# Altium footprint library adafruit.PCBLIB: 643 footprints (part 39 of 41)
Each footprint in its own frame and in the unit in brackets; x right, y up, seen from the top. Pads: shape width x height; smd on the part's side, far side on the other; paste and mask are expansions set on the pad; w line width, h text height; cw(c..) or ccw(c..) is an arc to the next point about the centre after c.
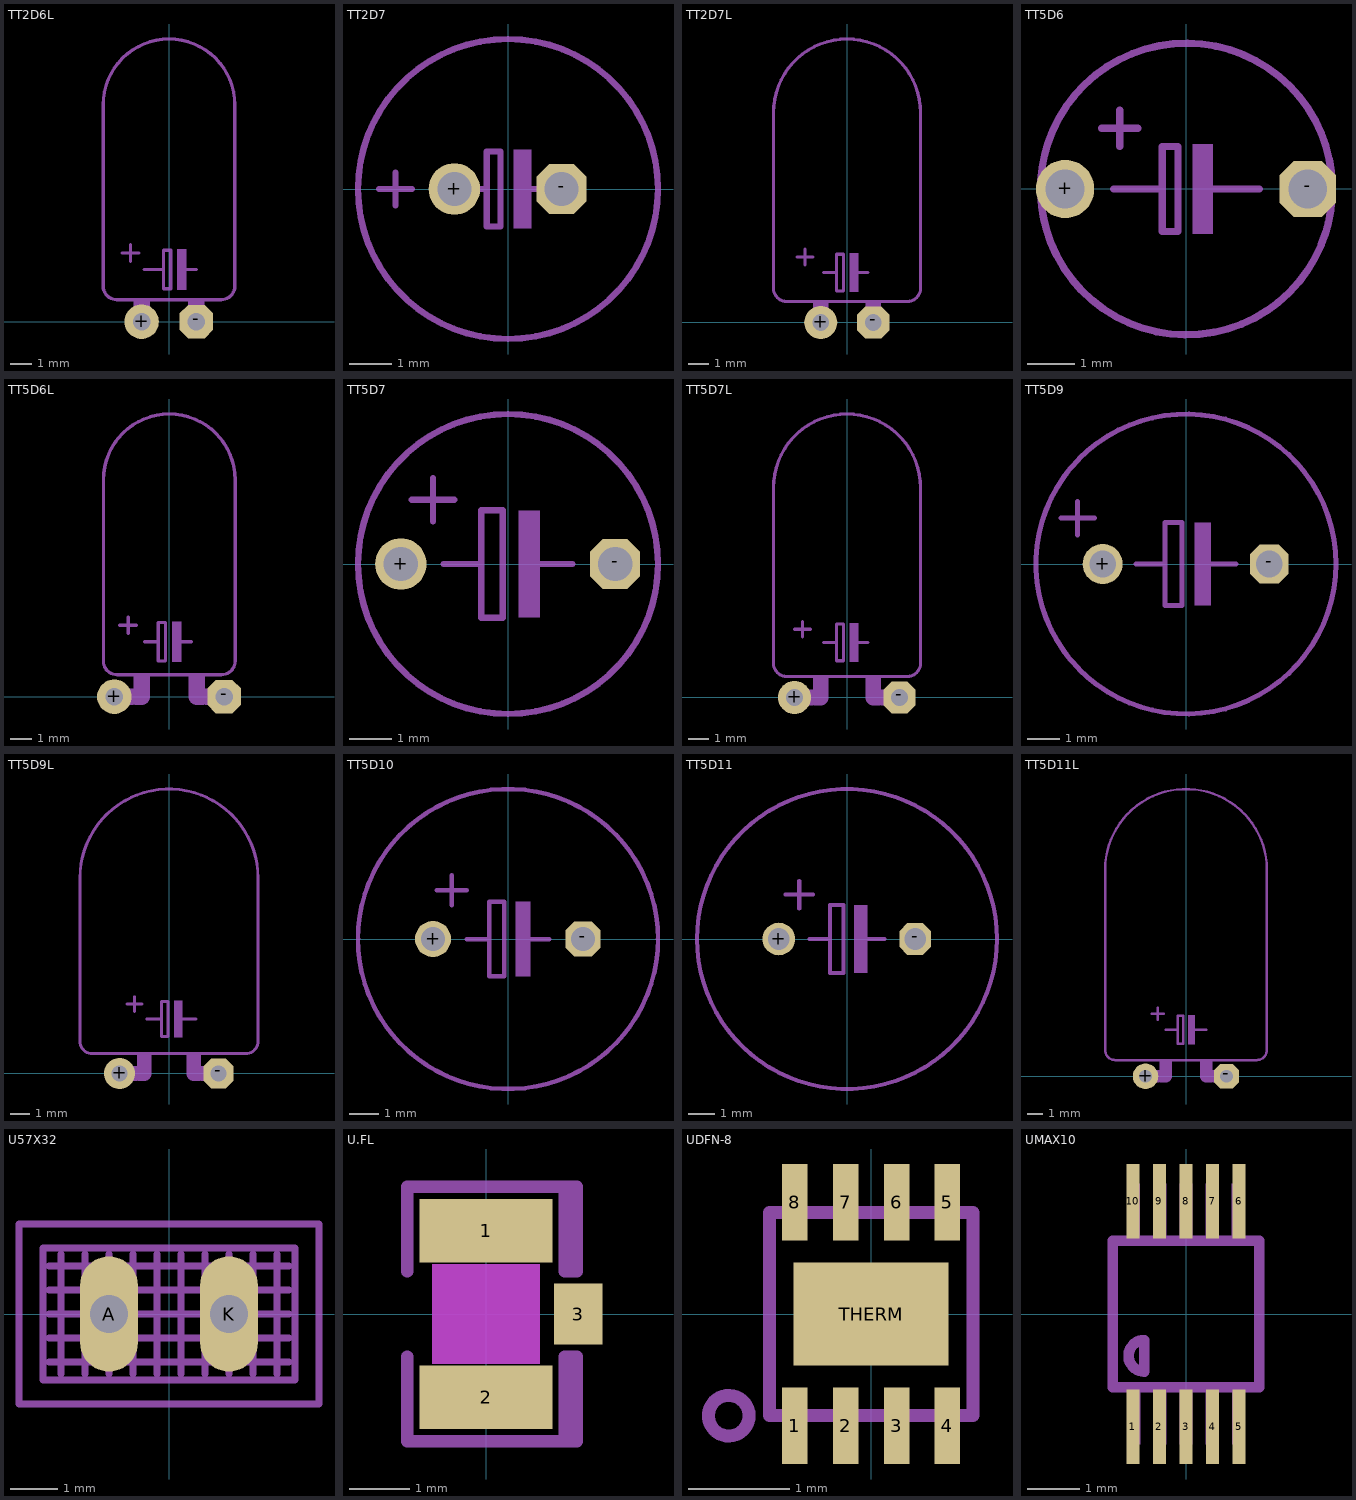
[diagram p38: the footprints below, top view; thin cyan lines are the x and y axes]

## TT2D6L [mil]
pads (2):
  round 63 hole 32: +(-50,0)
  oct 61x61 hole 32: -(50,0)
Mechanical 2:
  rectangle: 15,58 32,132
  lines w6: -85,125 -55,125 ; -70,110 -70,140 ; -45,95 -10,95 ; 30,95 50,95 ; -10,95 -10,60 3,60 3,130 -10,130 -10,95 ; -120,65 -120,395 cw(c0,395) 120,395 120,65 cw(c95,65) 95,40 -95,40 cw(c-95,65) -120,65
Mechanical 18:
  rectangle: -65,25 -35,40
  rectangle: 35,25 65,40
  rectangle: 35,-5 65,25
  rectangle: -65,-5 -35,25

## TT2D7 [mil]
pads (2):
  round 48 hole 32: +(-50,0)
  oct 46.48x46.48 hole 32: -(50,0)
Mechanical 2:
  circle w6: c0,0 r140
  lines w6: -120,0 -90,0 ; -105,-15 -105,15
Mechanical 18:
  rectangle: 5,-37 22,37
  lines w6: -40,0 -20,0 ; 20,0 40,0 ; -20,0 -20,-35 -7,-35 -7,35 -20,35 -20,0

## TT2D7L [mil]
pads (2):
  round 63 hole 32: +(-50,0)
  oct 61x61 hole 32: -(50,0)
Mechanical 2:
  rectangle: 5,58 22,132
  lines w6: -95,125 -65,125 ; -80,110 -80,140 ; -45,95 -20,95 ; 20,95 40,95 ; -20,95 -20,60 -7,60 -7,130 -20,130 -20,95 ; -140,65 ccw(c-115,65) -115,40 115,40 ccw(c115,65) 140,65 140,400 ccw(c0,400) -140,400 -140,65
Mechanical 18:
  rectangle: -65,25 -35,40
  rectangle: 35,25 65,40
  rectangle: 35,-5 65,25
  rectangle: -65,-5 -35,25

## TT5D6 [mil]
pads (2):
  round 48 hole 32: +(-100,0)
  oct 46.48x46.48 hole 32: -(100,0)
Mechanical 2:
  rectangle: 5,-37 22,37
  lines w6: -115.76,-32.41 ccw(c0,0) 115,-35 ; -114.49,36.64 cw(c0,0) 115,35 ; -70,50 -40,50 ; -60,0 -20,0 ; -55,35 -55,65 ; 20,0 60,0 ; -20,0 -20,-35 -7,-35 -7,35 -20,35 -20,0
Mechanical 18:
  lines w6: -115,-35 cw(c0,0) -114.04,38.01 ; 114.04,-38.01 ccw(c0,0) 115,35

## TT5D6L [mil]
pads (2):
  round 63 hole 32: +(-100,0)
  oct 61x61 hole 32: -(100,0)
Mechanical 2:
  rectangle: -65,25 -35,40
  rectangle: 35,25 65,40
  rectangle: 5,63 22,137
  lines w6: -90,130 -60,130 ; -75,115 -75,145 ; -45,100 -20,100 ; 20,100 40,100 ; -20,100 -20,65 -7,65 -7,135 -20,135 -20,100 ; -120,65 -120,395 cw(c0,395) 120,395 120,65 cw(c95,65) 95,40 -95,40 cw(c-95,65) -120,65
  lines w30: -50,0 -50,25 ; 50,0 50,25
Mechanical 18:
  rectangle: 65,-15 100,15
  rectangle: -100,-15 -65,15
  lines w30: -60,0 -50,0 ; 50,0 60,0

## TT5D7 [mil]
pads (2):
  round 48 hole 32: +(-100,0)
  oct 46.48x46.48 hole 32: -(100,0)
Mechanical 2:
  circle w6: c0,0 r140
  rectangle: 10,-50 30,50
  lines w6: -90,60 -50,60 ; -70,40 -70,80 ; -60,0 -25,0 ; 25,0 60,0 ; -25,0 -25,-50 -5,-50 -5,50 -25,50 -25,0

## TT5D7L [mil]
pads (2):
  round 63 hole 32: +(-100,0)
  oct 61x61 hole 32: -(100,0)
Mechanical 2:
  rectangle: -65,25 -35,40
  rectangle: 35,25 65,40
  rectangle: 5,68 22,142
  lines w6: -100,130 -70,130 ; -85,115 -85,145 ; -45,105 -20,105 ; 20,105 40,105 ; -20,105 -20,70 -7,70 -7,140 -20,140 -20,105 ; -140,65 -140,400 cw(c0,400) 140,400 140,65 cw(c115,65) 115,40 -115,40 cw(c-115,65) -140,65
  lines w30: -50,0 -50,25 ; 50,0 50,25
Mechanical 18:
  rectangle: 65,-15 100,15
  rectangle: -100,-15 -65,15
  lines w30: -60,0 -50,0 ; 50,0 60,0

## TT5D9 [mil]
pads (2):
  round 48 hole 32: +(-100,0)
  oct 46.48x46.48 hole 32: -(100,0)
Mechanical 2:
  circle w6: c0,0 r180
  rectangle: 10,-50 30,50
  lines w6: -150,55 -110,55 ; -130,35 -130,75 ; -60,0 -25,0 ; 25,0 60,0 ; -25,0 -25,-50 -5,-50 -5,50 -25,50 -25,0

## TT5D9L [mil]
pads (2):
  round 63 hole 32: +(-100,0)
  oct 61x61 hole 32: -(100,0)
Mechanical 2:
  rectangle: -65,25 -35,40
  rectangle: 35,25 65,40
  rectangle: 10,73 27,147
  lines w6: -85,140 -55,140 ; -70,125 -70,155 ; -45,110 -15,110 ; 25,110 55,110 ; -15,110 -15,75 -2,75 -2,145 -15,145 -15,110 ; -180,65 -180,395 cw(c0,395) 180,395 180,65 cw(c155,65) 155,40 -155,40 cw(c-155,65) -180,65
  lines w30: -50,0 -50,25 ; 50,0 50,25
Mechanical 18:
  rectangle: 65,-15 100,15
  rectangle: -100,-15 -65,15
  lines w30: -60,0 -50,0 ; 50,0 60,0

## TT5D10 [mil]
pads (2):
  round 48 hole 32: +(-100,0)
  oct 46.48x46.48 hole 32: -(100,0)
Mechanical 2:
  circle w6: c0,0 r200
  rectangle: 10,-50 30,50
  lines w6: -95,65 -55,65 ; -75,45 -75,85 ; -55,0 -25,0 ; 25,0 55,0 ; -25,0 -25,-50 -5,-50 -5,50 -25,50 -25,0

## TT5D11 [mil]
pads (2):
  round 48 hole 32: +(-100,0)
  oct 46.48x46.48 hole 32: -(100,0)
Mechanical 2:
  circle w6: c0,0 r220
  rectangle: 10,-50 30,50
  lines w6: -90,65 -50,65 ; -70,45 -70,85 ; -55,0 -25,0 ; 25,0 55,0 ; -25,0 -25,-50 -5,-50 -5,50 -25,50 -25,0

## TT5D11L [mil]
pads (2):
  round 63 hole 32: +(-100,0)
  oct 61x61 hole 32: -(100,0)
Mechanical 2:
  rectangle: -65,25 -35,40
  rectangle: 35,25 65,40
  rectangle: 5,78 22,152
  lines w6: -85,155 -55,155 ; -70,140 -70,170 ; -50,115 -20,115 ; 20,115 50,115 ; -20,115 -20,80 -7,80 -7,150 -20,150 -20,115 ; -200,65 -200,510 cw(c0,510) 200,510 200,65 cw(c175,65) 175,40 -175,40 cw(c-175,65) -200,65
  lines w30: -50,0 -50,25 ; 50,0 50,25
Mechanical 18:
  rectangle: 65,-15 100,15
  rectangle: -100,-15 -65,15
  lines w30: -60,0 -50,0 ; 50,0 60,0

## U57X32 [mil]
pads (2):
  oval 48x96 hole 32: A(-50,0) K(50,0)
Mechanical 2:
  lines w6: -125,-75 125,-75 125,75 -125,75 -125,-75 ; -105,-55 105,-55 105,55 -105,55 -105,-55
Mechanical 18:
  lines w6: -100,-40 100,-40 ; -100,-20 100,-20 ; -100,0 100,0 ; -100,20 100,20 ; -100,40 100,40 ; -90,-50 -90,50 ; -70,-50 -70,50 ; -50,-50 -50,50 ; -30,-50 -30,50 ; -10,-50 -10,50 ; 10,-50 10,50 ; 30,-50 30,50 ; 50,-50 50,50 ; 70,-50 70,50 ; 90,-50 90,50

## U.FL [mm]
pads (3):
  rect 2.2x1.05 smd: 1(0,1.375) 2(0,-1.375)
  rect 0.8x1 smd: 3(1.525,0)
Mechanical 2:
  lines w0.203: -1.3,-0.7 -1.3,-2.1 1.3,-2.1 ; -1.3,0.7 -1.3,2.1 1.3,2.1 ; 1.4,-2 1.4,-0.7 ; 1.4,0.7 1.4,2 ; 1.3,-2.1 1.3,-0.7 1.5,-0.7 1.5,-2.1 1.3,-2.1 ; 1.3,2.1 1.3,0.7 1.5,0.7 1.5,2.1 1.3,2.1
Mechanical 10 keep-out:
  rectangle: -0.889,-0.826 0.889,0.826

## UDFN-8 [mil]
pads (9):
  rect 9.84x29.53 smd: 1(-29.53,-43.31) 2(-9.84,-43.31) 3(9.84,-43.31) 4(29.53,-43.31) 5(29.53,43.31) 6(9.84,43.31) 7(-9.84,43.31) 8(-29.53,43.31)
  rect 60x40 smd paste-30 mask-30: THERM(0,0)
Top Paste:
  region: 0,0 10,0 10,10 0,10
  region: 0,0 10,0 10,10 0,10
  region: 0,0 10,0 10,10 0,10
  region: 0,0 10,0 10,10 0,10
Top Solder:
  region: 0,0 10,0 10,10 0,10
Mechanical 2:
  circle w5: c-55.12,-39.37 r7.87
  lines w5: -39.37,-39.37 39.37,-39.37 39.37,39.37 -39.37,39.37 -39.37,-39.37

## UMAX10 [mil]
pads (10):
  rect 10x56 smd: 1(-40,-85) 2(-20,-85) 3(0,-85) 4(20,-85) 5(40,-85) 6(40,85) 7(20,85) 8(0,85) 9(-20,85) 10(-40,85)
Mechanical 2:
  lines w8: -55.12,-55.12 55.12,-55.12 55.12,55.12 -55.12,55.12 -55.12,-55.12 ; -31.5,-43.31 cw(c-31.5,-31.5) -31.5,-19.69 -31.5,-43.31
Mechanical 18:
  rectangle: -44.27,-98.43 -34.43,-59.06
  rectangle: -24.58,-98.43 -14.74,-59.06
  rectangle: -4.9,-98.43 4.94,-59.06
  rectangle: 14.79,-98.43 24.63,-59.06
  rectangle: 34.47,-98.43 44.32,-59.06
  region: 44.27,98.43 34.43,98.43 34.43,59.06 44.27,59.06
  region: 24.58,98.43 14.74,98.43 14.74,59.06 24.58,59.06
  region: 4.9,98.43 -4.94,98.43 -4.94,59.06 4.9,59.06
  region: -14.79,98.43 -24.63,98.43 -24.63,59.06 -14.79,59.06
  region: -34.47,98.43 -44.32,98.43 -44.32,59.06 -34.47,59.06